# EAGLE library part SAMTEC_TSM-108-01-T-DV (library talons)
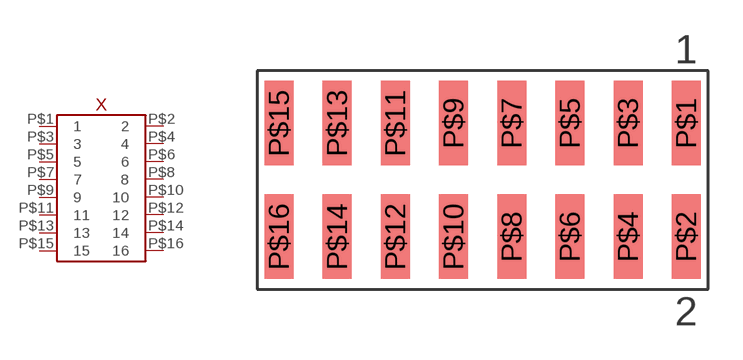
[diagram p9: symbol with the pads of 2X8_TSM_CONNECTOR; footprint 2X8_TSM_CONNECTOR]

Designator prefix X

## SAMTEC_TSM-108-01-T-DV  [2X8_TSM_CONNECTOR]
P$1  1
P$2  2
P$3  3
P$4  4
P$5  5
P$6  6
P$7  7
P$8  8
P$9  9
P$10  10
P$11  11
P$12  12
P$13  13
P$14  14
P$15  15
P$16  16

## Footprint 2X8_TSM_CONNECTOR (pad centres in mm)
Tech Specs for series <http://www.samtec.com/technical-specifications/default.aspx?SeriesMaster=TSM> Recommended footprint layout <http://cloud.samtec.com/Prints/tsm-dv-footprint.pdf>
smd 1.27 x 3.683: P$1 8.89,2.477; P$2 8.89,-2.477; P$3 6.35,2.477; P$4 6.35,-2.477; P$5 3.81,2.477; P$6 3.81,-2.477; P$7 1.27,2.477; P$8 1.27,-2.477; P$9 -1.27,2.477; P$10 -1.27,-2.477; P$11 -3.81,2.477; P$12 -3.81,-2.477; P$13 -6.35,2.477; P$14 -6.35,-2.477; P$15 -8.89,2.477; P$16 -8.89,-2.477